# EAGLE library part PCM5202A (library SureDSP)
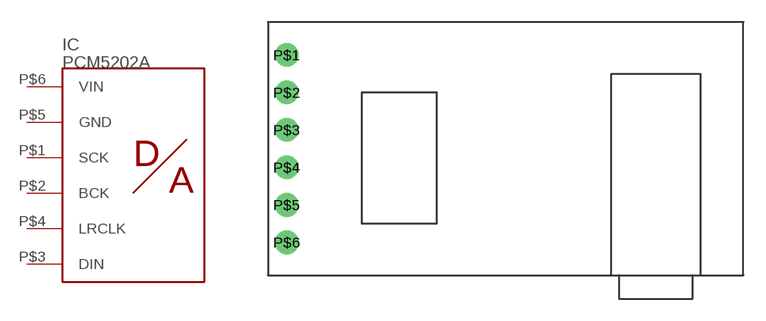
[diagram p2: symbol with the pads of PCM5202A; footprint PCM5202A]

Designator prefix IC

## PCM5202A  [PCM5202A]
P$1  SCK
P$2  BCK
P$3  DIN
P$4  LRCLK
P$5  GND
P$6  VIN

## Footprint PCM5202A (pad centres in mm)
drill 0.8 pad 1.6: P$1 0,6.35; P$2 0,3.81; P$3 0,1.27; P$4 0,-1.27; P$5 0,-3.81; P$6 0,-6.35